# Altium schematic symbol library SamacSys.SchLib: 3 symbols
Pins are listed as number, name and electrical type; pins without a type are passive.

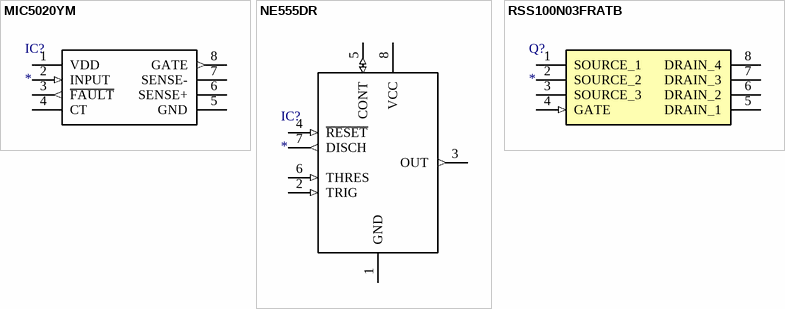
[diagram p0: symbols MIC5020YM to RSS100N03FRATB]

## MIC5020YM
designator IC?
Integrated Circuit; Manufacturer_Name: Microchip; Manufacturer_Part_Number: MIC5020YM; Datasheet Link: http://ww1.microchip.com/downloads/en/devicedoc/mic5020.pdf; Height: 1.879mm; RS Part Number: 9101537P; RS Price/Stock: http://uk.rs-online.com/web/p/products/9101537P
footprint SOIC127P600X188-8N
pins: 1 VDD (power), 2 INPUT (in), 3 ~{FAULT} (out), 4 CT, 5 GND (power), 6 SENSE+, 7 SENSE-, 8 GATE (out)

## NE555DR
designator IC?
Integrated Circuit; Manufacturer_Name: Texas Instruments; Manufacturer_Part_Number: NE555DR; Datasheet Link: http://www.ti.com/lit/ds/symlink/ne555.pdf; Height: 1.75mm; RS Part Number: 1218414; RS Price/Stock: http://uk.rs-online.com/web/p/products/1218414; Mouser Part Number: 595-NE555DR; Mouser Price/Stock: https://www.mouser.com/Search/Refine.aspx?Keyword=595-NE555DR
footprint SOIC127P600X175-8N
pins: 1 GND (power), 2 TRIG (in), 3 OUT (out), 4 ~{RESET} (in), 5 CONT (io), 6 THRES (in), 7 DISCH (out), 8 VCC (power)

## RSS100N03FRATB
designator Q?
MOSFET (N-Channel); Manufacturer_Name: ROHM Semiconductor; Manufacturer_Part_Number: RSS100N03FRATB; Datasheet Link: https://componentsearchengine.com/Datasheets/1/RSS100N03FRATB.pdf; Height: 1.65mm; Mouser Part Number: 755-RSS100N03FRATB; Mouser Price/Stock: https://www.mouser.com/Search/Refine.aspx?Keyword=755-RSS100N03FRATB
footprint SOIC127P600X165-8N
pins: 1 SOURCE_1 (power), 2 SOURCE_2 (power), 3 SOURCE_3 (power), 4 GATE (in), 5 DRAIN_1 (power), 6 DRAIN_2 (power), 7 DRAIN_3 (power), 8 DRAIN_4 (power)